# Altium integrated library Ceramic capacitor 3300pF4K VDE2E3SA332MA3BY02F.IntLib: 1 symbol
Pins are listed as number, name and electrical type; pins without a type are passive.

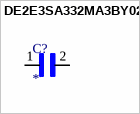
[diagram p0: symbol DE2E3SA332MA3BY02F]

## DE2E3SA332MA3BY02F
designator C?
Condensateur de plomb E(JIS) avec CapacitÃ© 3300pF, Tension nominale 400Vac(r.m.s.); MF: Murata; MP: DE2E3SA332MA3BY02F; Package: NONSTANDARD; Value: *; Purchase-URL: https://pricing.snapeda.com/search/part/DE2E3SA332MA3BY02F/?ref=eda; Availability: Bad; SnapEDA_Link: https://www.snapeda.com/parts/DE2E3SA332MA3BY02F/Murata/view-part/2799752/?ref=snap; Price: None; Check_prices: https://www.snapeda.com/parts/DE2E3SA332MA3BY02F/Murata/view-part/2799752/?ref=eda
footprint CAP_DE2E3SA332MA3BY02F
pins: 1, 2